# Altium footprint library Switch_CS12ANW03.PcbLib: 1 footprints
Each footprint in its own frame and in the unit in brackets; x right, y up, seen from the top. Pads: shape width x height; smd on the part's side, far side on the other; paste and mask are expansions set on the pad; w line width, h text height; cw(c..) or ccw(c..) is an arc to the next point about the centre after c.
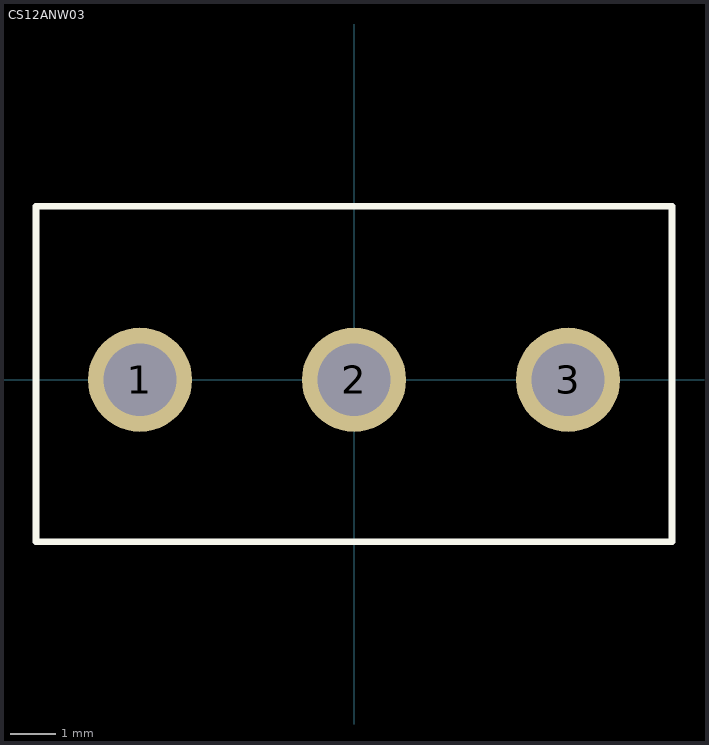
[diagram p0: the footprint, top view; thin cyan lines are the x and y axes]

## CS12ANW03 [mil] "NKKSWITCHES_CS12ANW03"
pads (3):
  round 90 hole 63: 1(-185,0) 2(0,0) 3(185,0)
Top Overlay:
  lines w6: -275,-140 -275,150 275,150 275,-140 -275,-140
3D body "CS12ANW03.stp": height 536.99, standoff -168, extent -275.5,-137.99 275.5,150.01